# Altium footprint library MCSJK7I800183060B30.PcbLib: 1 footprints
Each footprint in its own frame and in the unit in brackets; x right, y up, seen from the top. Pads: shape width x height; smd on the part's side, far side on the other; paste and mask are expansions set on the pad; w line width, h text height; cw(c..) or ccw(c..) is an arc to the next point about the centre after c.
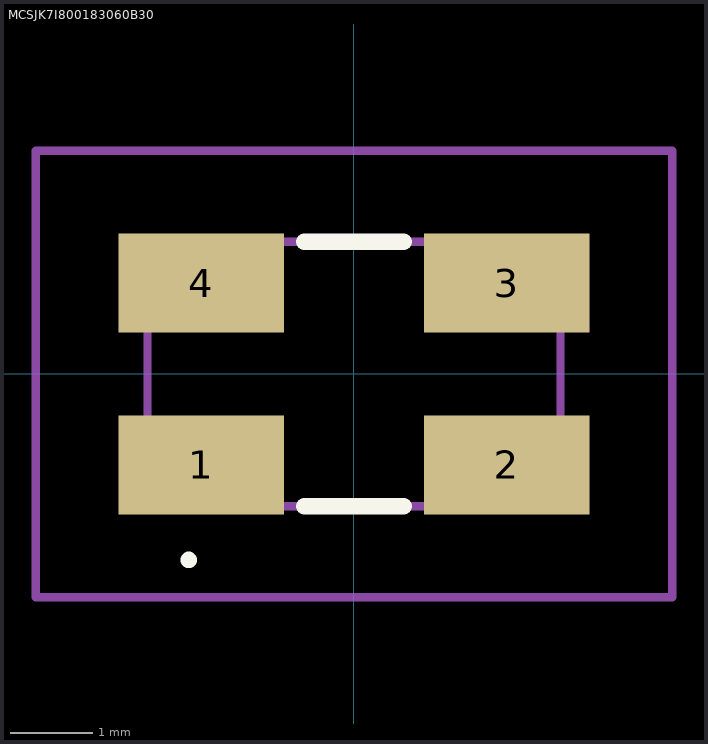
[diagram p0: the footprint, top view; thin cyan lines are the x and y axes]

## MCSJK7I800183060B30 [mm]
pads (4):
  rect 2x1.2 smd: 1(-1.85,-1.1) 2(1.85,-1.1) 3(1.85,1.1) 4(-1.85,1.1)
Top Overlay:
  lines w0.1: -2,-2.3 cw(c-2,-2.25) -2,-2.2 ; -2,-2.3 -2,-2.3 ; -2,-2.3 ccw(c-2,-2.25) -2,-2.2 ; -2,-2.2 -2,-2.2
  lines w0.2: -0.6,-1.6 0.6,-1.6 ; -0.6,1.6 0.6,1.6
Mechanical 15:
  lines w0.1: -2.5,-1.6 2.5,-1.6 2.5,1.6 -2.5,1.6 -2.5,-1.6
Mechanical 20:
  lines w0.1: -3.85,-2.7 3.85,-2.7 3.85,2.7 -3.85,2.7 -3.85,-2.7